# Altium schematic symbol library HY.SchLib: 7 symbols
Pins are listed as number, name and electrical type; pins without a type are passive.

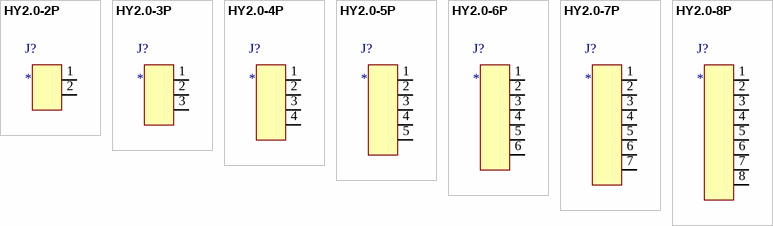
[diagram p0: symbols HY2.0-2P to HY2.0-8P]

## HY2.0-2P
designator J?
footprint HY2.0-2P - 直插
pins: 1, 2

## HY2.0-3P
designator J?
footprint HY2.0-3P - 直插
pins: 1, 2, 3

## HY2.0-4P
designator J?
footprint HY2.0-4P - 直插
pins: 1, 2, 3, 4

## HY2.0-5P
designator J?
footprint HY2.0-5P - 直插
pins: 1, 2, 3, 4, 5

## HY2.0-6P
designator J?
footprint HY2.0-6P - 直插
pins: 1, 2, 3, 4, 5, 6

## HY2.0-7P
designator J?
footprint HY2.0-7P - 直插
pins: 1, 2, 3, 4, 5, 6, 7

## HY2.0-8P
designator J?
footprint HY2.0-8P - 直插
pins: 1, 2, 3, 4, 5, 6, 7, 8